# EAGLE library part HLJ-6115ANL (library Itead-misc)
SOC015
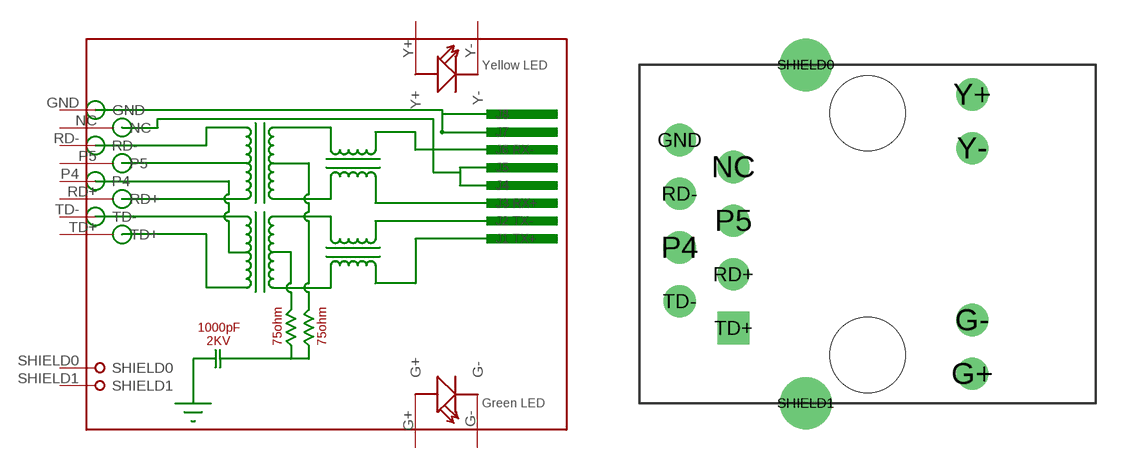
[diagram p23: symbol with the pads of HR911105A; footprint HR911105A]

Designator prefix RJ

## HLJ-6115ANL  [HR911105A]
G+  G+
G-  G-
GND  GND
NC  NC
P4  P4
P5  P5
RD+  RD+
RD-  RD-
SHIELD0  SHIELD0
SHIELD1  SHIELD1
TD+  TD+
TD-  TD-
Y+  Y+
Y-  Y-

## Footprint HR911105A (pad centres in mm)
drill 0.813 pad 1.524 round: G+ 4.953,-6.604; G- 4.953,-4.064; GND -8.89,4.445; NC -6.35,3.175; P4 -8.89,-0.635; P5 -6.35,0.635; RD+ -6.35,-1.905; RD- -8.89,1.905; TD- -8.89,-3.175; Y+ 4.953,6.604; Y- 4.953,4.064
drill 1.651 pad 2.159 round: SHIELD0 -2.921,8.001; SHIELD1 -2.921,-8.001
drill 0.813 pad 1.524 square: TD+ -6.35,-4.445
hole 3.556 at 0,-5.715
hole 3.556 at 0,5.715